# Altium footprint library SOT323.PcbLib: 1 footprints
Each footprint in its own frame and in the unit in brackets; x right, y up, seen from the top. Pads: shape width x height; smd on the part's side, far side on the other; paste and mask are expansions set on the pad; w line width, h text height; cw(c..) or ccw(c..) is an arc to the next point about the centre after c.
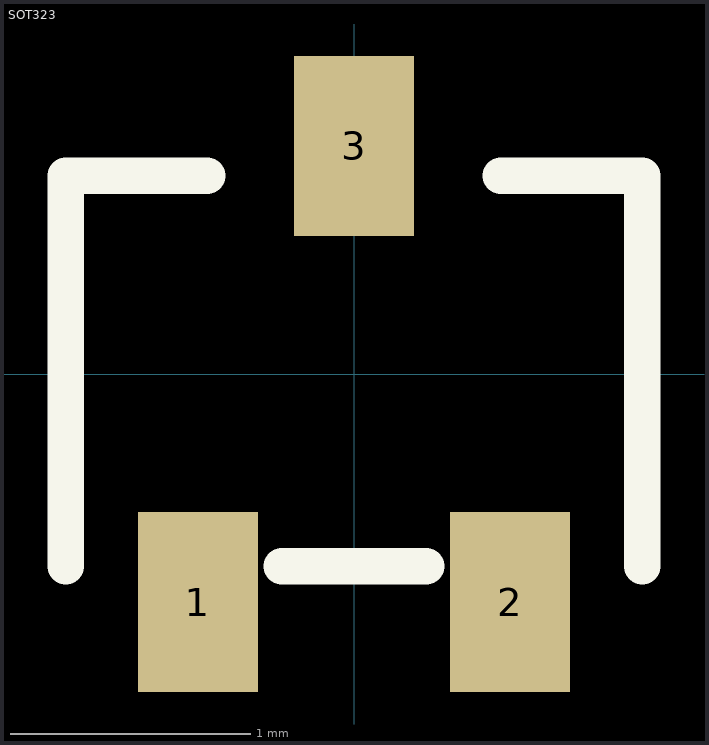
[diagram p0: the footprint, top view; thin cyan lines are the x and y axes]

## SOT323 [mm]
pads (3):
  rect 0.5x0.75 smd paste+0 mask+0: 1(-0.65,-0.95) 2(0.65,-0.95) 3(0,0.95)
Top Overlay:
  lines w0.152: -1.2,-0.8 -1.2,0.826 -0.612,0.826 ; -0.3,-0.8 0.3,-0.8 ; 0.612,0.826 1.2,0.826 1.2,-0.8
3D body "SOT323 (SC70-3).STEP": height 1.11, standoff 0.01, extent -1.1,-1.123 1.1,1.123